# Altium schematic symbol library USBUF.SchLib: 1 symbol
Pins are listed as number, name and electrical type; pins without a type are passive.

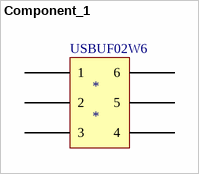
[diagram p0: symbol Component_1]

## Component_1
designator *
footprint PCBComponent_1
pins: ?1 1, ?2 2, ?3 3, ?4 4, ?5 5, ?6 6
text: USBUF02W6